# Altium schematic symbol library U_VREG_3pin_1in2out3gnd.SchLib: 1 symbol
Pins are listed as number, name and electrical type; pins without a type are passive.

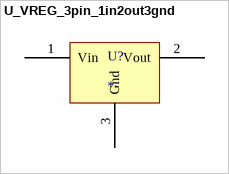
[diagram p0: symbol U_VREG_3pin_1in2out3gnd]

## U_VREG_3pin_1in2out3gnd
designator U?
pins: 1 Vin, 2 Vout, 3 Gnd